# EAGLE library part ADS122C04IPWR (library SparkFun-IC-Conversion)
24-Bit, 2kSPS, 4-Ch, Low-Power Delta-Sigma ADC With PGA, Voltage Reference, IDACs and I2C Interface Source: Datasheet <http://www.ti.com/lit/gpn/ads122c04>
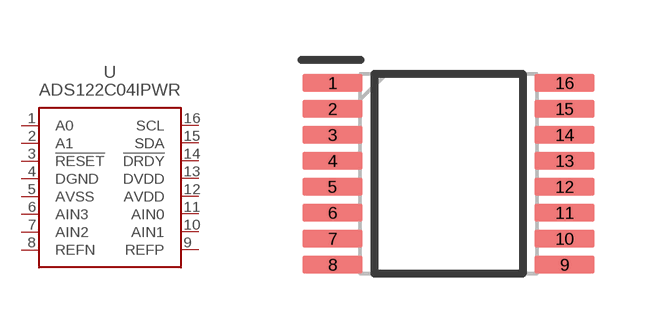
[diagram p7: symbol with the pads of SOP65P640X120-16N; footprint SOP65P640X120-16N]

Designator prefix U

## ADS122C04IPWR (HEIGHT: 1.2mm; MANUFACTURER_NAME: Texas Instruments; MANUFACTURER_PART_NUMBER: ADS122C04IPWR; MOUSER_PART_NUMBER: 595-ADS122C04IPWR; PROD_ID: IC-15119)  [SOP65P640X120-16N]
1  A0  in
2  A1  in
3  !RESET  in
4  DGND  pwr
5  AVSS  pwr
6  AIN3  in
7  AIN2  in
8  REFN  in
9  REFP  in
10  AIN1  in
11  AIN0  in
12  AVDD  pwr
13  DVDD  pwr
14  !DRDY  out
15  SDA
16  SCL

## Footprint SOP65P640X120-16N (pad centres in mm)
TSSOP PW0016A
smd 1.5 x 0.45: 1 -2.9,2.275; 2 -2.9,1.625; 3 -2.9,0.975; 4 -2.9,0.325; 5 -2.9,-0.325; 6 -2.9,-0.975; 7 -2.9,-1.625; 8 -2.9,-2.275; 9 2.9,-2.275; 10 2.9,-1.625; 11 2.9,-0.975; 12 2.9,-0.325; 13 2.9,0.325; 14 2.9,0.975; 15 2.9,1.625; 16 2.9,2.275